# Altium schematic symbol library Ahaltech BMS.SchLib: 51 symbols (part 4 of 4)
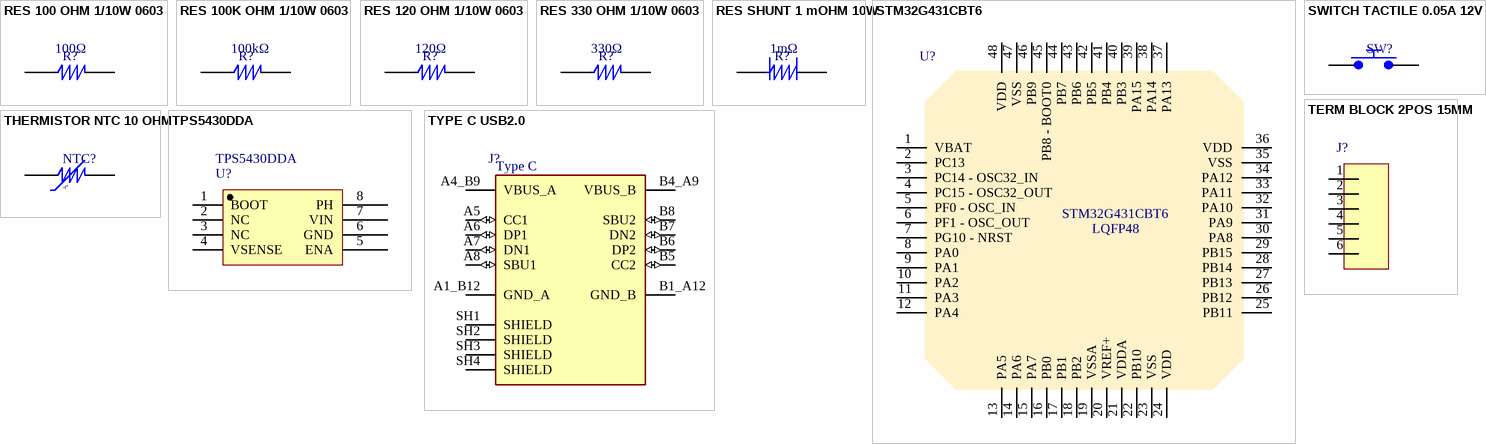
[diagram p4: symbols RES 100 OHM 1/10W 0603 to TYPE C USB2.0]

## RES 100K OHM 1/10W 0603
designator R?, comment value 100kΩ  (hidden comment: RG1608P-104-B-T5)
100 kOhms ±0.1% 0.1W, 1/10W Chip Resistor 0603 (1608 Metric) Anti-Sulfur, Automotive AEC-Q200 Thin Film; Manufacturer: Susumu; Max Power Dissipation: 100mW; Temperature Coefficient: 10ppm/°C; Voltage Rating: 100V; Voltage Rating (DC): 75V; Supplier: Future Electronics; Supplier Part Number: 2180081; Manufacturer Part Number: RG1608P-104-B-T5; RoHS: Compliant; Category: Chip SMD Resistors; Stock: 50000; Pricing: 5000=0,0575, 10000=0,0565, 15000=0,0559, 20000=0,0556, 25000=0,0543 (USD); Case/Package: 0603; Case Code (Imperial): 0603; Case Code (Metric): 1608; Composition: Thin Film; Features: Automotive AEC-Q200; Height: 400µm; Lead Free: Lead Free; Length: 1.6002mm; Lifecycle Status: Production; Max Operating Temperature: 155°C; Min Operating Temperature: -55°C; Mounting Technology: Surface Mount; Number of Terminals: 2; Number of Terminations: 2; Power Dissipation: 100mW; Power Rating: 100mW; REACH SVHC: Yes; Schedule B: 8533210045; Termination: SMD/SMT; Tolerance: 0.1%; Weight: 2.012816mg; Width: 800µm; Working Voltage: 75V; ComponentLink1URL: https://datasheet.octopart.com:443/RG1608P-104-B-T5-Susumu-datasheet-182148308.pdf?src-supplier=IHS; ComponentLink1Description: https://datasheet.octopart.com:443/RG1608P-104-B-T5-Susumu-datasheet-182148308.pdf?src-supplier=IHS; ComponentLink2URL: https://datasheet.octopart.com:443/RG1608P-104-B-T5-Susumu-datasheet-104167497.pdf?src-supplier=Upverter; ComponentLink2Description: https://datasheet.octopart.com:443/RG1608P-104-B-T5-Susumu-datasheet-104167497.pdf?src-supplier=Upverter; ComponentLink3URL: https://datasheet.octopart.com:443/RG1608P-104-B-T5-Susumu-datasheet-68296037.pdf?src-supplier=Future+Electronics; ComponentLink3Description: https://datasheet.octopart.com:443/RG1608P-104-B-T5-Susumu-datasheet-68296037.pdf?src-supplier=Future+Electronics; ComponentLink4URL: https://datasheet.octopart.com:443/RG1608P-104-B-T5-Susumu-datasheet-12510102.pdf?src-supplier=Future+Electronics; ComponentLink4Description: https://datasheet.octopart.com:443/RG1608P-104-B-T5-Susumu-datasheet-12510102.pdf?src-supplier=Future+Electronics; ComponentLink5URL: https://datasheet.octopart.com:443/RG1608P-104-B-T5-Susumu-datasheet-12510050.pdf?src-supplier=Future+Electronics; ComponentLink5Description: https://datasheet.octopart.com:443/RG1608P-104-B-T5-Susumu-datasheet-12510050.pdf?src-supplier=Future+Electronics; ComponentLink6URL: https://datasheet.octopart.com/RG1608P-104-B-T5-Susumu-datasheet-12509734.pdf; ComponentLink6Description: https://datasheet.octopart.com/RG1608P-104-B-T5-Susumu-datasheet-12509734.pdf; ComponentLink7URL: https://datasheet.octopart.com:443/RG1608P-104-B-T5-Susumu-datasheet-118552.pdf?src-supplier=DigiKey; ComponentLink7Description: https://datasheet.octopart.com:443/RG1608P-104-B-T5-Susumu-datasheet-118552.pdf?src-supplier=DigiKey
footprint RES 0603
pins: 1, 2

## RES 120 OHM 1/10W 0603
designator R?, comment value 120Ω  (hidden comment: ERA-3AEB121V)
120 Ohms ±0.1% 0.1W, 1/10W Chip Resistor 0603 (1608 Metric) Automotive AEC-Q200 Thin Film; Manufacturer: Panasonic; Manufacturer Part Number: ERA3AEB121V; Max Power Dissipation: 100mW; Temperature Coefficient: 25ppm/°C; Voltage Rating: 75V; Supplier: Farnell; Supplier Part Number: 1811353; RoHS: Compliant; Category: Chip SMD Resistors; Stock: 35000; Pricing: 5000=0,0343 (EUR); Case/Package: 0603; Case Code (Imperial): 0603; Composition: Thin Film; Contact Plating: Tin; Depth: 800µm; Features: Automotive AEC-Q200; Height: 450µm; Lead Free: Lead Free; Length: 1.6mm; Lifecycle Status: Production; Max Operating Temperature: 155°C; Military Standard: Not; Min Operating Temperature: -55°C; Mounting Technology: Surface Mount; Pins: 2; Number of Terminals: 2; Number of Terminations: 2; Packaging: Cut Tape; Power Dissipation: 100mW; Power Rating: 100mW; Radiation Hardening: No; REACH SVHC: Yes; Schedule B: 8533210045, 8533210045|8533210045|8533210045|8533210045|8533210045; Termination: SMD/SMT; Tolerance: 0.1%; Voltage Rating (DC): 75V; Width: 800µm; Working Voltage: 75V; ComponentLink1URL: https://datasheet.octopart.com:443/ERA3AEB121V-Panasonic-datasheet-181959660.pdf?src-supplier=IHS; ComponentLink1Description: https://datasheet.octopart.com:443/ERA3AEB121V-Panasonic-datasheet-181959660.pdf?src-supplier=IHS; ComponentLink2URL: https://datasheet.octopart.com:443/ERA3AEB121V-Panasonic-datasheet-62287448.pdf?src-supplier=Farnell; ComponentLink2Description: https://datasheet.octopart.com:443/ERA3AEB121V-Panasonic-datasheet-62287448.pdf?src-supplier=Farnell; ComponentLink3URL: https://datasheet.octopart.com:443/ERA-3AEB121V-Panasonic-datasheet-118567.pdf?src-supplier=Farnell; ComponentLink3Description: https://datasheet.octopart.com:443/ERA-3AEB121V-Panasonic-datasheet-118567.pdf?src-supplier=Farnell; ComponentLink4URL: https://datasheet.octopart.com:443/ERA-3AEB121V-Panasonic---ECG-datasheet-15994758.pdf?src-supplier=Farnell; ComponentLink4Description: https://datasheet.octopart.com:443/ERA-3AEB121V-Panasonic---ECG-datasheet-15994758.pdf?src-supplier=Farnell; ComponentLink5URL: https://datasheet.octopart.com:443/ERA3AEB121V-Panasonic-datasheet-136531316.pdf?src-supplier=Newark; ComponentLink5Description: https://datasheet.octopart.com:443/ERA3AEB121V-Panasonic-datasheet-136531316.pdf?src-supplier=Newark; ComponentLink6URL: https://datasheet.octopart.com:443/ERA3AEB121V-Panasonic-datasheet-8367715.pdf?src-supplier=Newark; ComponentLink6Description: https://datasheet.octopart.com:443/ERA3AEB121V-Panasonic-datasheet-8367715.pdf?src-supplier=Newark; ComponentLink7URL: https://datasheet.octopart.com:443/ERA3AEB121V-Panasonic-datasheet-13266200.pdf?src-supplier=Newark; ComponentLink7Description: https://datasheet.octopart.com:443/ERA3AEB121V-Panasonic-datasheet-13266200.pdf?src-supplier=Newark; ComponentLink8URL: https://datasheet.octopart.com:443/ERA-3AEB121V-Panasonic-datasheet-12510007.pdf?src-supplier=Newark; ComponentLink8Description: https://datasheet.octopart.com:443/ERA-3AEB121V-Panasonic-datasheet-12510007.pdf?src-supplier=Newark; ComponentLink9URL: https://datasheet.octopart.com:443/ERA-3AEB121V-Panasonic-datasheet-11763931.pdf?src-supplier=Newark; ComponentLink9Description: https://datasheet.octopart.com:443/ERA-3AEB121V-Panasonic-datasheet-11763931.pdf?src-supplier=Newark; ComponentLink10URL: https://datasheet.octopart.com:443/ERA-3AEB121V-Panasonic-datasheet-10840895.pdf?src-supplier=Newark; ComponentLink10Description: https://datasheet.octopart.com:443/ERA-3AEB121V-Panasonic-datasheet-10840895.pdf?src-supplier=Newark; ComponentLink11URL: https://datasheet.octopart.com:443/ERA-3AEB121V-Panasonic-datasheet-5392808.pdf?src-supplier=Newark; ComponentLink11Description: https://datasheet.octopart.com:443/ERA-3AEB121V-Panasonic-datasheet-5392808.pdf?src-supplier=Newark; ComponentLink12URL: https://datasheet.octopart.com:443/ERA3AEB121V-Panasonic-datasheet-61114971.pdf?src-supplier=Newark; ComponentLink12Description: https://datasheet.octopart.com:443/ERA3AEB121V-Panasonic-datasheet-61114971.pdf?src-supplier=Newark; ComponentLink13URL: https://datasheet.octopart.com:443/ERA3AEB121V-Panasonic-datasheet-22087624.pdf?src-supplier=Newark; ComponentLink13Description: https://datasheet.octopart.com:443/ERA3AEB121V-Panasonic-datasheet-22087624.pdf?src-supplier=Newark; ComponentLink14URL: https://datasheet.octopart.com:443/ERA-3AEB121V-Panasonic-datasheet-154766165.pdf?src-supplier=Master+Electronics; ComponentLink14Description: https://datasheet.octopart.com:443/ERA-3AEB121V-Panasonic-datasheet-154766165.pdf?src-supplier=Master+Electronics; ComponentLink15URL: https://datasheet.octopart.com:443/ERA3AEB121V-Panasonic-datasheet-188913046.pdf?src-supplier=TME; ComponentLink15Description: https://datasheet.octopart.com:443/ERA3AEB121V-Panasonic-datasheet-188913046.pdf?src-supplier=TME; ComponentLink16URL: https://sigma.octopart.com:443/150570796/technical_drawing/Panasonic-ERA3AEB121V.pdf?src-supplier=Panasonic+SCT; ComponentLink16Description: https://sigma.octopart.com:443/150570796/technical_drawing/Panasonic-ERA3AEB121V.pdf?src-supplier=Panasonic+SCT; ComponentLink17URL: https://datasheet.octopart.com:443/ERA3AEB121V-Panasonic-datasheet-138783076.pdf?src-supplier=Burklin+Elektronik; ComponentLink17Description: https://datasheet.octopart.com:443/ERA3AEB121V-Panasonic-datasheet-138783076.pdf?src-supplier=Burklin+Elektronik; ComponentLink18URL: https://datasheet.octopart.com/ERA3AEB121V-Panasonic-datasheet-78375410.pdf; ComponentLink18Description: https://datasheet.octopart.com/ERA3AEB121V-Panasonic-datasheet-78375410.pdf; ComponentLink19URL: https://datasheet.octopart.com:443/ERA3AEB121V-Panasonic-datasheet-33006989.pdf?src-supplier=Electro+Sonic; ComponentLink19Description: https://datasheet.octopart.com:443/ERA3AEB121V-Panasonic-datasheet-33006989.pdf?src-supplier=Electro+Sonic; ComponentLink20URL: https://datasheet.octopart.com:443/ERA-3AEB121V-Panasonic-datasheet-46744048.pdf?src-supplier=Electro+Sonic; ComponentLink20Description: https://datasheet.octopart.com:443/ERA-3AEB121V-Panasonic-datasheet-46744048.pdf?src-supplier=Electro+Sonic
footprint RES 0603
pins: 1, 2

## RES 330 OHM 1/10W 0603
designator R?, comment value 330Ω  (hidden comment: CRG0603F330R)
330 Ohms ±1% 0.1W, 1/10W Chip Resistor 0603 (1608 Metric) Thick Film; Manufacturer: TE Connectivity; Manufacturer Part Number: 1622918-1; Manufacturer Lifecycle Status: ACTIVE; Number of Resistors: 1; Operating Supply Voltage: 50V; Power Dissipation: 100mW; Temperature Coefficient: 100ppm/°C; Supplier: Farnell; Supplier Part Number: 3399578; RoHS: Compliant; Category: Chip SMD Resistors; Stock: 16155; Pricing: 10=0,0125, 250=0,0066, 1000=0,0044, 5000=0,0038, 10000=0,0028, 20000=0,0027 (EUR); Case/Package: 0603; Case Code (Imperial): 0603; Case Code (Metric): 1608; China RoHS: Non-Compliant; Composition: Thick Film; Depth: 800µm; ELV: Compliant; Height: 450µm; Length: 1.6mm; Lifecycle Status: Production; Max Operating Temperature: 125°C; Min Operating Temperature: -55°C; Mounting Technology: Surface Mount; Number of Terminals: 2; Number of Terminations: 2; Packaging: Tape & Reel (TR); Power Rating: 100mW; Radiation Hardening: No; REACH SVHC: Yes; Schedule B: 8533210045, 8533210090, 8533210090|8533210090, 8533210090|8533210090|8533210090; Termination: Solder; Tolerance: 1%; Voltage Rating: 50V; Width: 800µm; Working Voltage: 50V; ComponentLink1URL: https://datasheet.octopart.com:443/1622918-1-TE-Connectivity-datasheet-177732131.pdf?src-supplier=JRH+Electronics; ComponentLink1Description: https://datasheet.octopart.com:443/1622918-1-TE-Connectivity-datasheet-177732131.pdf?src-supplier=JRH+Electronics; ComponentLink2URL: https://datasheet.octopart.com:443/1622918-1-TE-Connectivity-datasheet-11120284.pdf?src-supplier=Farnell; ComponentLink2Description: https://datasheet.octopart.com:443/1622918-1-TE-Connectivity-datasheet-11120284.pdf?src-supplier=Farnell; ComponentLink3URL: https://datasheet.octopart.com:443/CRG0603F330R-TE-Connectivity-datasheet-182172479.pdf?src-supplier=IHS; ComponentLink3Description: https://datasheet.octopart.com:443/CRG0603F330R-TE-Connectivity-datasheet-182172479.pdf?src-supplier=IHS; ComponentLink4URL: https://datasheet.octopart.com:443/1622918-1-TE-Connectivity---AMP-datasheet-11120141.pdf?src-supplier=Master+Electronics; ComponentLink4Description: https://datasheet.octopart.com:443/1622918-1-TE-Connectivity---AMP-datasheet-11120141.pdf?src-supplier=Master+Electronics; ComponentLink5URL: https://datasheet.octopart.com:443/1622918-1-TE-Connectivity---AMP-datasheet-128558484.pdf?src-supplier=Master+Electronics; ComponentLink5Description: https://datasheet.octopart.com:443/1622918-1-TE-Connectivity---AMP-datasheet-128558484.pdf?src-supplier=Master+Electronics; ComponentLink6URL: https://datasheet.octopart.com:443/1622918-1-TE-Connectivity---AMP-datasheet-189108518.pdf?src-supplier=Master+Electronics; ComponentLink6Description: https://datasheet.octopart.com:443/1622918-1-TE-Connectivity---AMP-datasheet-189108518.pdf?src-supplier=Master+Electronics; ComponentLink7URL: https://datasheet.octopart.com:443/1622918-1-TE-Connectivity---AMP-datasheet-44624597.pdf?src-supplier=TE+Connectivity; ComponentLink7Description: https://datasheet.octopart.com:443/1622918-1-TE-Connectivity---AMP-datasheet-44624597.pdf?src-supplier=TE+Connectivity; ComponentLink8URL: https://datasheet.octopart.com:443/1622918-1-TE-Connectivity-datasheet-14513272.pdf?src-supplier=TE+Connectivity; ComponentLink8Description: https://datasheet.octopart.com:443/1622918-1-TE-Connectivity-datasheet-14513272.pdf?src-supplier=TE+Connectivity; ComponentLink9URL: https://datasheet.octopart.com:443/1622918-1-TE-Connectivity-datasheet-177731251.pdf?src-supplier=Burklin+Elektronik; ComponentLink9Description: https://datasheet.octopart.com:443/1622918-1-TE-Connectivity-datasheet-177731251.pdf?src-supplier=Burklin+Elektronik; ComponentLink10URL: https://datasheet.octopart.com:443/CRG0603F330R-TE-Connectivity-datasheet-111046813.pdf?src-supplier=RS+(Formerly+Allied+Electronics); ComponentLink10Description: https://datasheet.octopart.com:443/CRG0603F330R-TE-Connectivity-datasheet-111046813.pdf?src-supplier=RS+(Formerly+Allied+Electronics); ComponentLink11URL: https://datasheet.octopart.com:443/CRG0603F330R-TE-Connectivity-datasheet-20739855.pdf?src-supplier=RS+(Formerly+Allied+Electronics); ComponentLink11Description: https://datasheet.octopart.com:443/CRG0603F330R-TE-Connectivity-datasheet-20739855.pdf?src-supplier=RS+(Formerly+Allied+Electronics); ComponentLink12URL: https://datasheet.octopart.com:443/CRG0603F330R-Tyco-Electronics-datasheet-9643492.pdf?src-supplier=RS+(Formerly+Allied+Electronics); ComponentLink12Description: https://datasheet.octopart.com:443/CRG0603F330R-Tyco-Electronics-datasheet-9643492.pdf?src-supplier=RS+(Formerly+Allied+Electronics); ComponentLink13URL: http://sigma.octopart.com:80/14513267/rohs_certificate/Tyco-Electronics-CRG0603F330R.pdf?src-supplier=Compliance+Statements; ComponentLink13Description: http://sigma.octopart.com:80/14513267/rohs_certificate/Tyco-Electronics-CRG0603F330R.pdf?src-supplier=Compliance+Statements; ComponentLink14URL: http://sigma.octopart.com:80/38872715/materials_sheet/TE-Connectivity-CRG0603F330R.pdf?src-supplier=Compliance+Statements; ComponentLink14Description: http://sigma.octopart.com:80/38872715/materials_sheet/TE-Connectivity-CRG0603F330R.pdf?src-supplier=Compliance+Statements; ComponentLink15URL: http://sigma.octopart.com:80/78339115/materials_sheet/TE-Connectivity-CRG0603F330R.pdf?src-supplier=Compliance+Statements; ComponentLink15Description: http://sigma.octopart.com:80/78339115/materials_sheet/TE-Connectivity-CRG0603F330R.pdf?src-supplier=Compliance+Statements
footprint RES 0603
pins: 1, 2

## RES SHUNT 1 mOHM 10W
designator R?, comment value 1mΩ  (hidden comment: SSA5931LR001FDR)
10W Chip Resistor Nonstandard Current Sense, High Voltage Metal Element; Manufacturer: Littelfuse; Temperature Coefficient: 50ppm/°C; Tolerance: 1%; Supplier: Mouser; Supplier Part Number: 576-SSA5931LR001FDR; Manufacturer Part Number: SSA5931LR001FDR; RoHS: Compliant; Category: Chip SMD Resistors; Stock: 1410; Pricing: 1=1,96, 10=1,3, 50=1,01, 100=0,909, 1000=0,677, 10000=0,611 (USD); Height: 500µm; Lifecycle Status: Production; Max Operating Temperature: 170°C; Min Operating Temperature: -55°C; Mounting Technology: Surface Mount; Number of Terminals: 2; Power Dissipation: 10W; Width: 7.75mm; ComponentLink1URL: https://datasheet.octopart.com:443/SSA5931LR001FDR-Littelfuse-datasheet-182144187.pdf?src-supplier=IHS; ComponentLink1Description: https://datasheet.octopart.com:443/SSA5931LR001FDR-Littelfuse-datasheet-182144187.pdf?src-supplier=IHS
footprint Shunt 5931
pins: 1, 2

## STM32G431CBT6
designator U?  (value not drawn)
IC MCU 32BIT 128KB FLASH 48LQFP; Manufacturer: STMicroelectronics; Clock Rate: 48MHz; Core Architecture: ARM Cortex-M4; Data Bus Width: 32b; EEPROM Memory Size: 0B; Frequency: 170MHz; Interface: USB; Max Junction Temperature (Tj): 105°C; Max Supply Current: 29mA; Max Supply Voltage: 3.6V; Min Supply Voltage: 1.71V; Number of A/D Converters: 1; Number of ADC Channels: 17; Number of D/A Converters: 2; Number of I2C Channels: 3; Number of I/Os: 5; Number of Interrupts: 16; Number of PWM Channels: 31; Number of Timers/Counters: 12; Number of UART Channels: 4; Operating Supply Voltage: 3V; RAM Size: 32kB; Supplier: Arrow Electronics; Supplier Part Number: STM32G431CBT6; Manufacturer Part Number: STM32G431CBT6; RoHS: Compliant; Category: Microcontrollers; Stock: 32983; Pricing: 1=4,083, 10=3,333, 25=3,084, 100=2,983, 250=2,847, 500=2,627 (USD); Ambient Temperature Range High: 85°C; China RoHS: Compliant; Flash Memory Size: 128kB; Height: 1.6mm; Height - Seated (Max): 1.6mm; Length: 7mm; Lifecycle Status: Production; Max Operating Temperature: 85°C; Memory Size: 128kB; Memory Format: FLASH; Min Operating Temperature: -40°C; Number of SPI Channels: 3; Number of Terminals: 48; Number of USART Channels: 3; Number of USB Channels: 1; REACH SVHC: Yes; Schedule B: 8542310000, 8542310000|8542310000|8542310000|8542310000|8542310000; Terminal Pitch: 500µm; Width: 7mm; ComponentLink1URL: https://datasheet.octopart.com:443/STM32G431CBT6-STMicroelectronics-datasheet-136120343.pdf?src-supplier=Future+Electronics; ComponentLink1Description: https://datasheet.octopart.com:443/STM32G431CBT6-STMicroelectronics-datasheet-136120343.pdf?src-supplier=Future+Electronics
footprint LQFP48
pins: 1 VBAT, 2 PC13, 3 PC14 - OSC32_IN, 4 PC15 - OSC32_OUT, 5 PF0 - OSC_IN, 6 PF1 - OSC_OUT, 7 PG10 - NRST, 8 PA0, 9 PA1, 10 PA2, 11 PA3, 12 PA4, 13 PA5, 14 PA6, 15 PA7, 16 PB0, 17 PB1, 18 PB2, 19 VSSA, 20 VREF+, 21 VDDA, 22 PB10, 23 VSS, 24 VDD, 25 PB11, 26 PB12, 27 PB13, 28 PB14, 29 PB15, 30 PA8, 31 PA9, 32 PA10, 33 PA11, 34 PA12, 35 VSS, 36 VDD, 37 PA13, 38 PA14, 39 PA15, 40 PB3, 41 PB4, 42 PB5, 43 PB6, 44 PB7, 45 PB8 - BOOT0, 46 PB9, 47 VSS, 48 VDD
text: LQFP48

## SWITCH TACTILE 0.05A 12V
designator SW?, comment PTS636SM50JSMTR LFS  (value not drawn)
Switch Tactile Spst-no 0.05A 12V; Manufacturer: C&K Components; Contact Resistance: 100mΩ; Number of Positions: 2; Supplier: Mouser; Supplier Part Number: 611-PTS636SM50JSMTRL; Manufacturer Part Number: PTS636SM50JSMTR LFS; Category: Tactile Switches; Stock: 6250; Pricing: 1=0,21, 10=0,183, 50=0,172, 100=0,155, 1000=0,123, 10000=0,112 (USD); ComponentLink1URL: https://datasheet.octopart.com:443/PTS636SM50JSMTR-LFS-C%26K-Components-datasheet-166147775.pdf?src-supplier=TME; ComponentLink1Description: https://datasheet.octopart.com:443/PTS636SM50JSMTR-LFS-C%26K-Components-datasheet-166147775.pdf?src-supplier=TME
footprint SWITCH TACTILE
pins: 1, 2

## TERM BLOCK 2POS 15MM
designator J?, comment 1762741  (value not drawn)
2 Position Terminal Block Header, Blade Pins, Shrouded (4 Side) 0.591" (15.00mm) 90°, Right Angle Through Hole; Manufacturer: Phoenix Contact; Approvals: CB, UL, VDE, cUL; Connector Type: Socket; Current: 115A; Current Rating: 125A; Gender: Male; Number of Contacts: 2; Number of Levels: 1; Pitch: 15mm; Voltage: 600V; Voltage Rating: 1kV; Wire/Cable Gauge: 2AWG; Supplier: Mouser; Supplier Part Number: 651-1762741; Manufacturer Part Number: 1762741; RoHS: Compliant; Category: Terminal Blocks; Stock: 28; Pricing: 1=11, 10=11, 50=11, 100=11, 1000=11, 10000=11 (USD); China RoHS: Compliant; Color: Green; Contact Material: Silver; ELV: Compliant; Flammability Rating: UL94 V-0; Height: 38mm; Housing Material: Nylon; Lead Free: Not Applicable; Length: 33.1mm; Lifecycle Status: Production; Mounting Technology: Through Hole; Number of Positions: 2; Number of Positions Per Level: 2; Number of Rows: 1; REACH SVHC: Yes; Termination: Solder; Width: 54.4mm; ComponentLink1URL: https://datasheet.octopart.com:443/1762741-Phoenix-Contact-datasheet-181078194.pdf?src-supplier=IHS; ComponentLink1Description: https://datasheet.octopart.com:443/1762741-Phoenix-Contact-datasheet-181078194.pdf?src-supplier=IHS; ComponentLink2URL: https://datasheet.octopart.com:443/1762741-Phoenix-Contact-datasheet-154779661.pdf?src-supplier=Electro+Sonic; ComponentLink2Description: https://datasheet.octopart.com:443/1762741-Phoenix-Contact-datasheet-154779661.pdf?src-supplier=Electro+Sonic; ComponentLink3URL: https://datasheet.octopart.com:443/1762741-Phoenix-Contact-datasheet-177328922.pdf?src-supplier=Burklin+Elektronik; ComponentLink3Description: https://datasheet.octopart.com:443/1762741-Phoenix-Contact-datasheet-177328922.pdf?src-supplier=Burklin+Elektronik; ComponentLink4URL: https://datasheet.octopart.com:443/1762741-Phoenix-Contact-datasheet-136320536.pdf?src-supplier=RS+(Formerly+Allied+Electronics); ComponentLink4Description: https://datasheet.octopart.com:443/1762741-Phoenix-Contact-datasheet-136320536.pdf?src-supplier=RS+(Formerly+Allied+Electronics); ComponentLink5URL: https://datasheet.octopart.com:443/1762741-Phoenix-Contact-datasheet-66579450.pdf?src-supplier=Farnell; ComponentLink5Description: https://datasheet.octopart.com:443/1762741-Phoenix-Contact-datasheet-66579450.pdf?src-supplier=Farnell; ComponentLink6URL: https://datasheet.octopart.com:443/1762741-Phoenix-Contact-datasheet-33471481.pdf?src-supplier=MRO+Stop; ComponentLink6Description: https://datasheet.octopart.com:443/1762741-Phoenix-Contact-datasheet-33471481.pdf?src-supplier=MRO+Stop
footprint 1762741
pins: 1, 2, 3, 4, 5, 6

## THERMISTOR NTC 10 OHM
designator NTC?, comment NC20KC0100KBA  (value not drawn)
NTC Thermistor 10 1206 (3216 Metric); Manufacturer: KYOCERA AVX; Accuracy: 5%; Max Power Dissipation: 240mW; Value: 10Ω NTC; Tolerance: 10%; Supplier: Mouser; Supplier Part Number: 581-NC20KC0100KBA; Manufacturer Part Number: NC20KC0100KBA; RoHS: Compliant; Category: Thermistors; Stock: 13105; Pricing: 1=0,43, 10=0,405, 50=0,359, 100=0,342, 1000=0,295, 10000=0,282 (USD); Case/Package: 1206; Case Code (Imperial): 1206; Case Code (Metric): 3216; China RoHS: Compliant; Depth: 1.6mm; Height: 1.5mm; Lead Free: Contains Lead; Length: 3.2mm; Lifecycle Status: Production; Max Operating Temperature: 150°C; Min Operating Temperature: -55°C; Mounting Technology: Surface Mount; Pins: 2; Number of Terminals: 2; Power Dissipation: 240mW; Power Rating: 240mW; Radiation Hardening: No; REACH SVHC: Yes; Schedule B: 8533400080; Termination: SMD/SMT; Width: 1.6mm; ComponentLink1URL: https://datasheet.octopart.com:443/NC20KC0100KBA-KYOCERA-AVX-datasheet-182025368.pdf?src-supplier=IHS; ComponentLink1Description: https://datasheet.octopart.com:443/NC20KC0100KBA-KYOCERA-AVX-datasheet-182025368.pdf?src-supplier=IHS; ComponentLink2URL: https://datasheet.octopart.com:443/NC20KC0100KBA-AVX-datasheet-2691.pdf?src-supplier=Mouser; ComponentLink2Description: https://datasheet.octopart.com:443/NC20KC0100KBA-AVX-datasheet-2691.pdf?src-supplier=Mouser; ComponentLink3URL: https://datasheet.octopart.com:443/NC20KC0100KBA-AVX-datasheet-12341000.pdf?src-supplier=_legacy+Avnet; ComponentLink3Description: https://datasheet.octopart.com:443/NC20KC0100KBA-AVX-datasheet-12341000.pdf?src-supplier=_legacy+Avnet; ComponentLink4URL: http://sigma.octopart.com:80/conflict_mineral_statement/AVX-company-34.pdf?src-supplier=Compliance+Statements; ComponentLink4Description: http://sigma.octopart.com:80/conflict_mineral_statement/AVX-company-34.pdf?src-supplier=Compliance+Statements; ComponentLink5URL: http://sigma.octopart.com:80/reach_statement/AVX-company-19.pdf?src-supplier=Compliance+Statements; ComponentLink5Description: http://sigma.octopart.com:80/reach_statement/AVX-company-19.pdf?src-supplier=Compliance+Statements
footprint NTC 1206
pins: 1, 2
text: -t°

## TPS5430DDA
designator U?
5.5V to 36V Input, 3A, 500kHz Step-Down Converter 8-SO PowerPAD 0 to 0; Manufacturer: Texas Instruments; Manufacturer Lifecycle Status: ACTIVE; Efficiency: 95%; Frequency: 600kHz; Max Duty Cycle: 89%; Max Junction Temperature (Tj): 125°C; Max Output Voltage: 31V; Min Output Voltage: 1.22V; Nominal Supply Current: 3mA; Number of Channels: 1; Output Type: Adjustable; Synchronous Rectifier: No; Topology: Buck; Supplier: Arrow Electronics; Manufacturer Part Number: TPS5430DDA; RoHS: Compliant; Category: Voltage Regulators - Switching; Stock: 65; Pricing: 1=3,964, 10=2,831 (USD); Case/Package: SOIC; Height: 1.7mm; Lead Free: Lead Free; Length: 4.89mm; Lifecycle Status: Production; Max Supply Voltage: 36V; Max Operating Temperature: 125°C; Max Output current: 3A; Min Input Voltage: 5.5V; Min Operating Temperature: -40°C; Min Supply Voltage: 5.5V; Mounting Technology: Surface Mount; Number of Outputs: 1; Pins: 8; Operating Supply Voltage: 36V; Output Current: 3A; Output Voltage: 31V; Quiescent Current: 3mA; Radiation Hardening: No; REACH SVHC: No; Schedule B: 8542390000, 8542390000|8542390000|8542390000|8542390000|8542390000|8542390000|8542390000|8542390000|8542390000|8542390000|8542390000|8542390000|8542390000|8542390000|8542390000|8542390000|8542390000|8542390000|8542390000|8542390000|8542390000|8542390000|8542390000|85; Switching Frequency: 500kHz; Thickness: 1.48mm; Weight: 70.590313mg; Width: 3.9mm; ComponentLink1URL: https://sigma.octopart.com:443/104526336/technical_drawing/Texas-Instruments-TPS5430DDA.pdf?src-supplier=Texas+Instruments; ComponentLink1Description: https://sigma.octopart.com:443/104526336/technical_drawing/Texas-Instruments-TPS5430DDA.pdf?src-supplier=Texas+Instruments; ComponentLink2URL: https://octopart.com:443/opatz8j6/c1?t=cQwpT0IAjSvIeJNymzR49Ha4c8-Jw2GT8njN-4Wya_e5nsqySIYXgLxhkt0Jd4x2pizck7_uu0HpZBw0JIFNfGGHRxe2c5Q7M53Cns2xcEWVPkypOPmOnsio6HGwNRmBpO-tMX1aZ7VXmPql3w2aNZ9NhKChGGzvfC2q8bq69m3tcrhUwZqRyTiP4V9FR-DzuPaqnEQMs9yZrbpgcvLaaD0vy6xkV0-8W_9Zwu7IarCKUSxbgWNR-blL30e4x9bwSFN6WJrXrHFDNBoVcqvo5cL7ylo3HUXX5OruNdVRWvfm9UQ8Yujwri02A_A1AhmI0qVpc6YNiv36RxOftZXveUNmTKoyiKy0CBBmk6sHc2xMuj3RoS5LRI_jl5pMJHu_-RE&src-supplier=Texas+Instruments; ComponentLink2Description: https://octopart.com:443/opatz8j6/c1?t=cQwpT0IAjSvIeJNymzR49Ha4c8-Jw2GT8njN-4Wya_e5nsqySIYXgLxhkt0Jd4x2pizck7_uu0HpZBw0JIFNfGGHRxe2c5Q7M53Cns2xcEWVPkypOPmOnsio6HGwNRmBpO-tMX1aZ7VXmPql3w2aNZ9NhKChGGzvfC2q8bq69m3tcrhUwZqRyTiP4V9FR-DzuPaqnEQMs9yZrbpgcvLaaD0vy6xkV0-8W_9Zwu7IarCKUSxbgWNR-blL30e4x9bwSFN6WJrXrHFDNBoVcqvo5cL7ylo3HUXX5OruNdVRWvfm9UQ8Yujwri02A_A1AhmI0qVpc6YNiv36RxOftZXveUNmTKoyiKy0CBBmk6sHc2xMuj3RoS5LRI_jl5pMJHu_-RE&src-supplier=Texas+Instruments; ComponentLink3URL: https://datasheet.octopart.com:443/TPS5430DDA-Texas-Instruments-datasheet-34154659.pdf?src-supplier=Texas+Instruments; ComponentLink3Description: https://datasheet.octopart.com:443/TPS5430DDA-Texas-Instruments-datasheet-34154659.pdf?src-supplier=Texas+Instruments; ComponentLink4URL: https://datasheet.octopart.com:443/TPS5430DDA-Texas-Instruments-datasheet-17423535.pdf?src-supplier=Texas+Instruments; ComponentLink4Description: https://datasheet.octopart.com:443/TPS5430DDA-Texas-Instruments-datasheet-17423535.pdf?src-supplier=Texas+Instruments; ComponentLink5URL: https://datasheet.octopart.com:443/TPS5430DDA-Texas-Instruments-datasheet-13479706.pdf?src-supplier=Texas+Instruments; ComponentLink5Description: https://datasheet.octopart.com:443/TPS5430DDA-Texas-Instruments-datasheet-13479706.pdf?src-supplier=Texas+Instruments; ComponentLink6URL: https://sigma.octopart.com:443/49250132/technical_drawing/Texas-Instruments-TPS5430DDA.pdf?src-supplier=Texas+Instruments; ComponentLink6Description: https://sigma.octopart.com:443/49250132/technical_drawing/Texas-Instruments-TPS5430DDA.pdf?src-supplier=Texas+Instruments; ComponentLink7URL: https://datasheet.octopart.com:443/TPS5430DDA-Texas-Instruments-datasheet-10258285.pdf?src-supplier=Texas+Instruments; ComponentLink7Description: https://datasheet.octopart.com:443/TPS5430DDA-Texas-Instruments-datasheet-10258285.pdf?src-supplier=Texas+Instruments; ComponentLink8URL: https://datasheet.octopart.com:443/TPS5430DDA-Texas-Instruments-datasheet-151806.pdf?src-supplier=Texas+Instruments; ComponentLink8Description: https://datasheet.octopart.com:443/TPS5430DDA-Texas-Instruments-datasheet-151806.pdf?src-supplier=Texas+Instruments; ComponentLink9URL: https://datasheet.octopart.com:443/TPS5430DDA-Texas-Instruments-datasheet-136392.pdf?src-supplier=Texas+Instruments; ComponentLink9Description: https://datasheet.octopart.com:443/TPS5430DDA-Texas-Instruments-datasheet-136392.pdf?src-supplier=Texas+Instruments; ComponentLink10URL: https://datasheet.octopart.com:443/TPS5430DDA-Texas-Instruments-datasheet-37140813.pdf?src-supplier=element14+APAC; ComponentLink10Description: https://datasheet.octopart.com:443/TPS5430DDA-Texas-Instruments-datasheet-37140813.pdf?src-supplier=element14+APAC; ComponentLink11URL: https://datasheet.octopart.com:443/TPS5430DDA-Texas-Instruments-datasheet-66810009.pdf?src-supplier=element14+APAC; ComponentLink11Description: https://datasheet.octopart.com:443/TPS5430DDA-Texas-Instruments-datasheet-66810009.pdf?src-supplier=element14+APAC; ComponentLink12URL: https://datasheet.octopart.com:443/TPS5430DDA.-Texas-Instruments-datasheet-62292585.pdf?src-supplier=element14+APAC; ComponentLink12Description: https://datasheet.octopart.com:443/TPS5430DDA.-Texas-Instruments-datasheet-62292585.pdf?src-supplier=element14+APAC; ComponentLink13URL: https://datasheet.octopart.com:443/TPS5430DDA.-Texas-Instruments-datasheet-32026778.pdf?src-supplier=element14+APAC; ComponentLink13Description: https://datasheet.octopart.com:443/TPS5430DDA.-Texas-Instruments-datasheet-32026778.pdf?src-supplier=element14+APAC; ComponentLink14URL: https://datasheet.octopart.com:443/TPS5430DDA-Texas-Instruments-datasheet-21262768.pdf?src-supplier=element14+APAC; ComponentLink14Description: https://datasheet.octopart.com:443/TPS5430DDA-Texas-Instruments-datasheet-21262768.pdf?src-supplier=element14+APAC; ComponentLink15URL: https://datasheet.octopart.com:443/TPS5430DDA-Texas-Instruments-datasheet-14439094.pdf?src-supplier=Upverter; ComponentLink15Description: https://datasheet.octopart.com:443/TPS5430DDA-Texas-Instruments-datasheet-14439094.pdf?src-supplier=Upverter; ComponentLink16URL: https://datasheet.octopart.com:443/TPS5430DDA-Texas-Instruments-datasheet-23715064.pdf?src-supplier=Newark; ComponentLink16Description: https://datasheet.octopart.com:443/TPS5430DDA-Texas-Instruments-datasheet-23715064.pdf?src-supplier=Newark; ComponentLink17URL: https://datasheet.octopart.com:443/TPS5430DDA-Texas-Instruments-datasheet-11761703.pdf?src-supplier=Newark; ComponentLink17Description: https://datasheet.octopart.com:443/TPS5430DDA-Texas-Instruments-datasheet-11761703.pdf?src-supplier=Newark; ComponentLink18URL: https://datasheet.octopart.com:443/TPS5430DDA-Texas-Instruments-datasheet-14167055.pdf?src-supplier=iiiC; ComponentLink18Description: https://datasheet.octopart.com:443/TPS5430DDA-Texas-Instruments-datasheet-14167055.pdf?src-supplier=iiiC; ComponentLink19URL: https://datasheet.octopart.com:443/TPS5430DDA-Texas-Instruments-datasheet-8428127.pdf?src-supplier=Jameco; ComponentLink19Description: https://datasheet.octopart.com:443/TPS5430DDA-Texas-Instruments-datasheet-8428127.pdf?src-supplier=Jameco; ComponentLink20URL: http://sigma.octopart.com:80/reach_statement/Texas-Instruments-company-64.pdf?src-supplier=Compliance+Statements; ComponentLink20Description: http://sigma.octopart.com:80/reach_statement/Texas-Instruments-company-64.pdf?src-supplier=Compliance+Statements; ComponentLink21URL: http://sigma.octopart.com:80/conflict_mineral_statement/Texas-Instruments-company-63.pdf?src-supplier=Compliance+Statements; ComponentLink21Description: http://sigma.octopart.com:80/conflict_mineral_statement/Texas-Instruments-company-63.pdf?src-supplier=Compliance+Statements; Supplier Part Number: TPS5430DDA
footprint 8SOPWR
pins: 1 BOOT, 2 NC, 3 NC, 4 VSENSE, 5 ENA, 6 GND, 7 VIN, 8 PH

## TYPE C USB2.0
designator J?, comment Model: Type C  (hidden comment: GSB1C41110SSHR)
USB-C (USB TYPE-C) USB 2.0 Receptacle Connector 24 (16+8 Dummy) Position Surface Mount, Right Angle; Through Hole; Manufacturer: Amphenol; Supplier: Arrow Electronics; Supplier Part Number: GSB1C41110SSHR; Manufacturer Part Number: GSB1C41110SSHR; Category: Connectors; Pricing: 8000=0,2931, 16000=0,29, 24000=0,287, 40000=0,284, 48000=0,282, 96000=0,279, 120000=0,276, 200000=0,273, 240000=0,27 (USD)
footprint TYPE-C (GSB1C41110SSHR)
pins: A1_B12 GND_A (power), A4_B9 VBUS_A (power), A5 CC1 (io), A6 DP1 (io), A7 DN1 (io), A8 SBU1 (io), B1_A12 GND_B (power), B4_A9 VBUS_B (power), B5 CC2 (io), B6 DP2 (io), B7 DN2 (io), B8 SBU2 (io), SH1 SHIELD, SH2 SHIELD, SH3 SHIELD, SH4 SHIELD